# Altium footprint library WSON_DRX.PcbLib: 3 footprints
Each footprint in its own frame and in the unit in brackets; x right, y up, seen from the top. Pads: shape width x height; smd on the part's side, far side on the other; paste and mask are expansions set on the pad; w line width, h text height; cw(c..) or ccw(c..) is an arc to the next point about the centre after c.
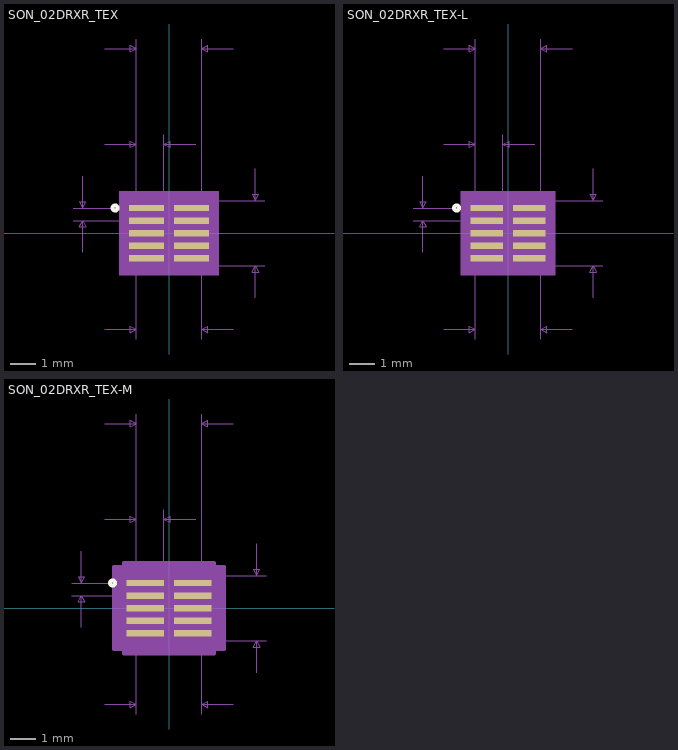
[diagram p0: the footprints below, top view; thin cyan lines are the x and y axes]

## SON_02DRXR_TEX [mm]
pads (10):
  rect 1.392x0.255 smd paste+0 mask+0: 1(-0.899,1) 2(-0.899,0.5) 3(-0.899,0) 4(-0.899,-0.5) 5(-0.899,-1) 6(0.899,-1) 7(0.899,-0.5) 8(0.899,0) 9(0.899,0.5) 10(0.899,1)
Top Overlay:
  circle w0.152: c-2.146,1 r0.102
Mechanical 5:
  region: 1.976,-1.676 -1.976,-1.676 -1.976,1.676 1.976,1.676
Mechanical 7:
  lines w0.025: -3.82,0.5 -0.899,0.5 ; -3.82,1 -0.899,1 ; -3.439,-0.77 -3.439,0.5 ; -3.439,2.27 -3.439,1 ; -2.565,-3.835 -1.295,-3.835 ; -2.565,3.54 -1.295,3.54 ; -2.565,7.35 -1.295,7.35 ; -1.295,-4.216 -1.295,-1.295 ; -1.295,3.921 -1.295,1 -1.295,7.731 ; -0.203,1 -0.203,3.921 ; 1.067,3.54 -0.203,3.54 ; 1.295,-4.216 1.295,-1.295 3.82,-1.295 ; 1.295,1 1.295,7.731 ; 1.295,1.295 3.82,1.295 ; 2.565,-3.835 1.295,-3.835 ; 2.565,7.35 1.295,7.35 ; 3.439,-2.565 3.439,-1.295 ; 3.439,2.565 3.439,1.295 ; -3.439,0.5 -3.566,0.246 -3.312,0.246 -3.439,0.5 ; -3.439,1 -3.566,1.254 -3.312,1.254 -3.439,1 ; -1.295,-3.835 -1.549,-3.708 -1.549,-3.962 -1.295,-3.835 ; -1.295,3.54 -1.549,3.667 -1.549,3.413 -1.295,3.54 ; -1.295,7.35 -1.549,7.477 -1.549,7.223 -1.295,7.35 ; -0.203,3.54 0.051,3.667 0.051,3.413 -0.203,3.54 ; 1.295,-3.835 1.549,-3.708 1.549,-3.962 1.295,-3.835 ; 1.295,7.35 1.549,7.477 1.549,7.223 1.295,7.35 ; 3.439,-1.295 3.312,-1.549 3.566,-1.549 3.439,-1.295 ; 3.439,1.295 3.312,1.549 3.566,1.549 3.439,1.295
  text "Default Padstyle: r139_25" at -7.938,-10.693 h1.27
  text "Alt 1 Padstyle: b152_229h76" at -8.572,-15.265 h1.27
  text "Alt 2 Padstyle: b229_152h76" at -8.572,-16.789 h1.27
  text "0.102in/2.591mm" at -2.381,7.858 h0.64
  text "0.043in/1.092mm" at -3.131,4.048 h0.64
  text "0.02in/0.5mm" at -7.757,0.433 h0.64
  text "0.102in/2.591mm" at 3.947,-0.318 h0.64
  text "0.102in/2.591mm" at -2.381,-4.978 h0.64
Mechanical 13:
  circle w0: c-0.203,1 r0.076
  lines w0: -0.305,1.295 ccw(c0,1.295) 0.305,1.295
  lines w0.025: -1.295,-1.295 1.295,-1.295 1.295,1.295 -1.295,1.295 -1.295,-1.295
Mechanical 15:
  region: -1.549,-1.382 -1.849,-1.382 -1.849,1.382 -1.549,1.382 -1.549,1.549 1.549,1.549 1.549,1.382 1.849,1.382 1.849,-1.382 1.549,-1.382 1.549,-1.549 -1.549,-1.549
  lines w0.152: -1.849,-1.382 -1.849,1.382 -1.549,1.382 -1.549,1.549 1.549,1.549 1.549,1.382 1.849,1.382 1.849,-1.382 1.549,-1.382 1.549,-1.549 -1.549,-1.549 -1.549,-1.382 -1.849,-1.382
3D body "WSON_DRX10.step": height 0.81, standoff 0, extent -1.295,-1.295 1.295,1.295

## SON_02DRXR_TEX-L [mm]
pads (10):
  rect 1.292x0.255 smd paste+0 mask+0: 1(-0.849,1) 2(-0.849,0.5) 3(-0.849,0) 4(-0.849,-0.5) 5(-0.849,-1) 6(0.849,-1) 7(0.849,-0.5) 8(0.849,0) 9(0.849,0.5) 10(0.849,1)
Top Overlay:
  circle w0.152: c-2.046,1 r0.102
Mechanical 5:
  region: 1.876,-1.676 -1.876,-1.676 -1.876,1.676 1.876,1.676
Mechanical 7:
  lines w0.025: -3.77,0.5 -0.849,0.5 ; -3.77,1 -0.849,1 ; -3.389,-0.77 -3.389,0.5 ; -3.389,2.27 -3.389,1 ; -2.565,-3.835 -1.295,-3.835 ; -2.565,3.54 -1.295,3.54 ; -2.565,7.35 -1.295,7.35 ; -1.295,-4.216 -1.295,-1.295 ; -1.295,3.921 -1.295,1 -1.295,7.731 ; -0.203,1 -0.203,3.921 ; 1.067,3.54 -0.203,3.54 ; 1.295,-4.216 1.295,-1.295 3.77,-1.295 ; 1.295,1 1.295,7.731 ; 1.295,1.295 3.77,1.295 ; 2.565,-3.835 1.295,-3.835 ; 2.565,7.35 1.295,7.35 ; 3.389,-2.565 3.389,-1.295 ; 3.389,2.565 3.389,1.295 ; -3.389,0.5 -3.516,0.246 -3.262,0.246 -3.389,0.5 ; -3.389,1 -3.516,1.254 -3.262,1.254 -3.389,1 ; -1.295,-3.835 -1.549,-3.708 -1.549,-3.962 -1.295,-3.835 ; -1.295,3.54 -1.549,3.667 -1.549,3.413 -1.295,3.54 ; -1.295,7.35 -1.549,7.477 -1.549,7.223 -1.295,7.35 ; -0.203,3.54 0.051,3.667 0.051,3.413 -0.203,3.54 ; 1.295,-3.835 1.549,-3.708 1.549,-3.962 1.295,-3.835 ; 1.295,7.35 1.549,7.477 1.549,7.223 1.295,7.35 ; 3.389,-1.295 3.262,-1.549 3.516,-1.549 3.389,-1.295 ; 3.389,1.295 3.262,1.549 3.516,1.549 3.389,1.295
  text "Default Padstyle: r129_25" at -7.938,-10.693 h1.27
  text "Alt 1 Padstyle: b152_229h76" at -8.572,-15.265 h1.27
  text "Alt 2 Padstyle: b229_152h76" at -8.572,-16.789 h1.27
  text "0.102in/2.591mm" at -2.381,7.858 h0.64
  text "0.043in/1.092mm" at -3.131,4.048 h0.64
  text "0.02in/0.5mm" at -7.707,0.433 h0.64
  text "0.102in/2.591mm" at 3.897,-0.318 h0.64
  text "0.102in/2.591mm" at -2.381,-4.978 h0.64
Mechanical 13:
  circle w0: c-0.203,1 r0.076
  lines w0: -0.305,1.295 ccw(c0,1.295) 0.305,1.295
  lines w0.025: -1.295,-1.295 1.295,-1.295 1.295,1.295 -1.295,1.295 -1.295,-1.295
Mechanical 15:
  region: -1.397,-1.229 -1.597,-1.229 -1.597,1.229 -1.397,1.229 -1.397,1.397 1.397,1.397 1.397,1.229 1.597,1.229 1.597,-1.229 1.397,-1.229 1.397,-1.397 -1.397,-1.397
  lines w0.152: -1.597,-1.229 -1.597,1.229 -1.397,1.229 -1.397,1.397 1.397,1.397 1.397,1.229 1.597,1.229 1.597,-1.229 1.397,-1.229 1.397,-1.397 -1.397,-1.397 -1.397,-1.229 -1.597,-1.229
3D body: height 0.25, standoff 0, extent 0,0 0.254,0.254
3D body "WSON_DRX10.step": height 0.81, standoff 0, extent -1.295,-1.295 1.295,1.295

## SON_02DRXR_TEX-M [mm]
pads (10):
  rect 1.492x0.255 smd paste+0 mask+0: 1(-0.949,1) 2(-0.949,0.5) 3(-0.949,0) 4(-0.949,-0.5) 5(-0.949,-1) 6(0.949,-1) 7(0.949,-0.5) 8(0.949,0) 9(0.949,0.5) 10(0.949,1)
Top Overlay:
  circle w0.152: c-2.246,1 r0.102
Mechanical 5:
  region: 2.076,-1.676 -2.076,-1.676 -2.076,1.676 2.076,1.676
Mechanical 7:
  lines w0.025: -3.87,0.5 -0.949,0.5 ; -3.87,1 -0.949,1 ; -3.489,-0.77 -3.489,0.5 ; -3.489,2.27 -3.489,1 ; -2.565,-3.835 -1.295,-3.835 ; -2.565,3.54 -1.295,3.54 ; -2.565,7.35 -1.295,7.35 ; -1.295,-4.216 -1.295,-1.295 ; -1.295,3.921 -1.295,1 -1.295,7.731 ; -0.203,1 -0.203,3.921 ; 1.067,3.54 -0.203,3.54 ; 1.295,-4.216 1.295,-1.295 3.87,-1.295 ; 1.295,1 1.295,7.731 ; 1.295,1.295 3.87,1.295 ; 2.565,-3.835 1.295,-3.835 ; 2.565,7.35 1.295,7.35 ; 3.489,-2.565 3.489,-1.295 ; 3.489,2.565 3.489,1.295 ; -3.489,0.5 -3.616,0.246 -3.362,0.246 -3.489,0.5 ; -3.489,1 -3.616,1.254 -3.362,1.254 -3.489,1 ; -1.295,-3.835 -1.549,-3.708 -1.549,-3.962 -1.295,-3.835 ; -1.295,3.54 -1.549,3.667 -1.549,3.413 -1.295,3.54 ; -1.295,7.35 -1.549,7.477 -1.549,7.223 -1.295,7.35 ; -0.203,3.54 0.051,3.667 0.051,3.413 -0.203,3.54 ; 1.295,-3.835 1.549,-3.708 1.549,-3.962 1.295,-3.835 ; 1.295,7.35 1.549,7.477 1.549,7.223 1.295,7.35 ; 3.489,-1.295 3.362,-1.549 3.616,-1.549 3.489,-1.295 ; 3.489,1.295 3.362,1.549 3.616,1.549 3.489,1.295
  text "Default Padstyle: r149_25" at -7.938,-10.693 h1.27
  text "Alt 1 Padstyle: b152_229h76" at -8.572,-15.265 h1.27
  text "Alt 2 Padstyle: b229_152h76" at -8.572,-16.789 h1.27
  text "0.102in/2.591mm" at -2.381,7.858 h0.64
  text "0.043in/1.092mm" at -3.131,4.048 h0.64
  text "0.02in/0.5mm" at -7.807,0.433 h0.64
  text "0.102in/2.591mm" at 3.997,-0.318 h0.64
  text "0.102in/2.591mm" at -2.381,-4.978 h0.64
Mechanical 13:
  circle w0: c-0.203,1 r0.076
  lines w0: -0.305,1.295 ccw(c0,1.295) 0.305,1.295
  lines w0.025: -1.295,-1.295 1.295,-1.295 1.295,1.295 -1.295,1.295 -1.295,-1.295
Mechanical 15:
  region: -1.803,-1.636 -2.203,-1.636 -2.203,1.636 -1.803,1.636 -1.803,1.803 1.803,1.803 1.803,1.636 2.203,1.636 2.203,-1.636 1.803,-1.636 1.803,-1.803 -1.803,-1.803
  lines w0.152: -2.203,-1.636 -2.203,1.636 -1.803,1.636 -1.803,1.803 1.803,1.803 1.803,1.636 2.203,1.636 2.203,-1.636 1.803,-1.636 1.803,-1.803 -1.803,-1.803 -1.803,-1.636 -2.203,-1.636
3D body: height 0.25, standoff 0, extent 0,0 0.254,0.254
3D body "WSON_DRX10.step": height 0.81, standoff 0, extent -1.295,-1.295 1.295,1.295